# Altium footprint library PcbLib1.PcbLib: 12 footprints
Each footprint in its own frame and in the unit in brackets; x right, y up, seen from the top. Pads: shape width x height; smd on the part's side, far side on the other; paste and mask are expansions set on the pad; w line width, h text height; cw(c..) or ccw(c..) is an arc to the next point about the centre after c.
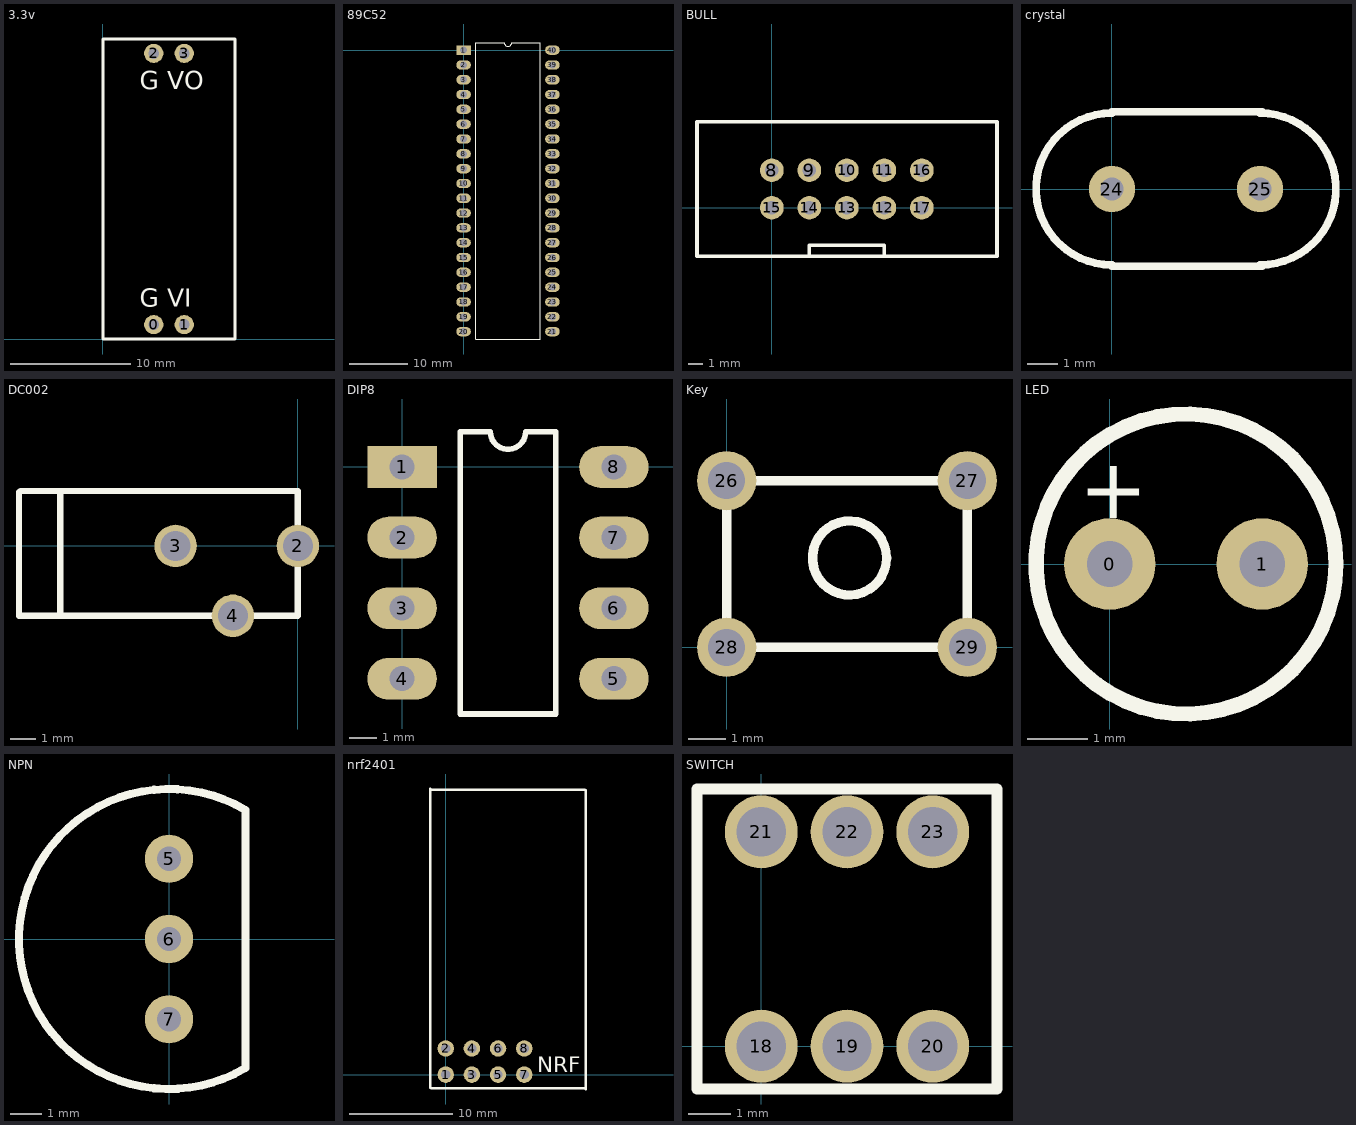
[diagram p0: the footprints below, top view; thin cyan lines are the x and y axes]

## 3.3v [mm]
pads (4):
  round 1.6 hole 0.9: 0(4.23,1.2) 1(6.77,1.2) 2(4.23,23.8) 3(6.77,23.8)
Top Overlay:
  lines w0.254: 0,0 0,25 11,25 11,0 0,0
  text "G VO" at 3.048,20.828 h1.52
  text "G VI" at 3.048,2.667 h1.52

## 89C52 [mm]
pads (40):
  rect 2.5x1.6 hole 1.2: 1(0,0)
  oval 2.5x1.6 hole 1.2: 2(0,-2.54) 3(0,-5.08) 4(0,-7.62) 5(0,-10.16) 6(0,-12.7) 7(0,-15.24) 8(0,-17.78) 9(0,-20.32) 10(0,-22.86) 11(0,-25.4) 12(0,-27.94) 13(0,-30.48) 14(0,-33.02) 15(0,-35.56) 16(0,-38.1) 17(0,-40.64) 18(0,-43.18) 19(0,-45.72) 20(0,-48.26) 21(15.24,-48.26) 22(15.24,-45.72) 23(15.24,-43.18) 24(15.24,-40.64) 25(15.24,-38.1) 26(15.24,-35.56) 27(15.24,-33.02) 28(15.24,-30.48) 29(15.24,-27.94) 30(15.24,-25.4) 31(15.24,-22.86) 32(15.24,-20.32) 33(15.24,-17.78) 34(15.24,-15.24) 35(15.24,-12.7) 36(15.24,-10.16) 37(15.24,-7.62) 38(15.24,-5.08) 39(15.24,-2.54) 40(15.24,0)
Top Overlay:
  lines w0.2: 2.085,-49.53 2.085,1.27 6.985,1.27 ccw(c7.62,1.27) 8.255,1.27 13.155,1.27 13.155,-49.53 2.085,-49.53

## BULL [mm]
pads (10):
  round 1.6 hole 0.9: 8(0,2.54) 9(2.54,2.54) 10(5.08,2.54) 11(7.62,2.54) 12(7.62,0) 13(5.08,0) 14(2.54,0) 15(0,0) 16(10.16,2.54) 17(10.16,0)
Top Overlay:
  lines w0.254: 2.54,-3.175 2.54,-2.54 7.62,-2.54 7.62,-3.175 ; 15.23,-3.28 -5.07,-3.28 -5.07,5.82 15.23,5.82 ; 15.25,-3.28 15.25,5.82

## crystal [mil]
pads (2):
  round 60 hole 30: 24(0,0) 25(192.13,0)
Top Overlay:
  lines w10: 0,-100 195,-100 ; 0,-98.43 cw(c0,0) 0,98.43 ; 0,100 195,100 ; 191.98,98.43 cw(c192.13,0) 192.13,-98.43

## DC002 [mm]
pads (3):
  round 1.7 hole 1.2: 2(0,0) 3(-4.9,0) 4(-2.6,-2.8)
Top Overlay:
  lines w0.254: -11.176,-2.794 -11.176,2.159 ; -11.1,-2.8 0,-2.8 ; -11.1,2.2 0,2.2 ; -9.525,-2.794 -9.525,2.159 ; 0,-2.794 0,2.159

## DIP8 [mm]
pads (8):
  rect 2.5x1.5 hole 0.9: 1(0,0)
  oval 2.5x1.5 hole 0.9: 2(0,-2.54) 3(0,-5.08) 4(0,-7.62) 5(7.62,-7.62) 6(7.62,-5.08) 7(7.62,-2.54) 8(7.62,0)
Top Overlay:
  lines w0.2: 2.085,-8.89 5.535,-8.89 5.535,1.27 4.445,1.27 cw(c3.81,1.27) 3.175,1.27 2.085,1.27 2.085,-8.89

## Key [mm]
pads (4):
  round 1.6 hole 1: 26(0,4.5) 27(6.5,4.5) 28(0,0) 29(6.5,0)
Top Overlay:
  circle w0.254: c3.318,2.413 r1
  lines w0.254: 0,0 6.5,0 6.5,4.5 0,4.5 0,0

## LED [mil]
pads (2):
  round 60 hole 30: 0(0,0) 1(100,0)
Top Overlay:
  circle w10: c50,0 r98.43
  text "+" at -20,30 h39.37

## NPN [mil]
pads (3):
  round 60 hole 30: 5(0,100) 6(0,0) 7(0,-100)
Top Overlay:
  lines w10: 95,-160 95,160 ; 95.24,160.71 ccw(c0,0) 95.38,-160.63

## nrf2401 [mm]
pads (8):
  round 1.6 hole 0.9: 1(0,0) 2(0,2.54) 3(2.54,0) 4(2.54,2.54) 5(5.08,0) 6(5.08,2.54) 7(7.62,0) 8(7.62,2.54)
Top Overlay:
  lines w0.254: -1.524,-1.27 -1.524,27.741 ; -1.524,27.686 13.486,27.686 ; -1.397,-1.342 13.613,-1.342 ; 13.589,-1.397 13.589,27.614
  text "NRF" at 8.89,0.254 h1.52

## PCBComponent_1 [mm]

## SWITCH [mm]
pads (6):
  round 1.7 hole 1.15: 18(0,0) 19(2,0) 20(4,0) 21(0,5) 22(2,5) 23(4,5)
Top Overlay:
  lines w0.254: -1.5,-1 5.5,-1 5.5,6 -1.5,6 -1.5,-1